# EAGLE library part 1666РЕ014 (library memory)
АЕЯР.431220.981 ТУ 1666РЕ014 - Сегнетоэлектрическое энергонезависимое ОЗУ (FRAM) информационной емкостью 1Мбит. Изготовитель: ОАО "ИНТЕГРАЛ", г. Минск, р. Беларусь. Технические условия: АЕЯР.431220.981 ТУ
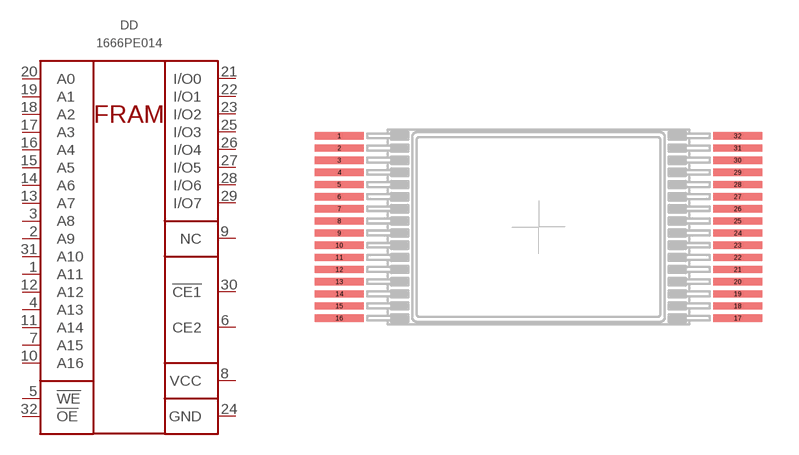
[diagram p3: symbol with the pads of 4184.32-1; footprint 4184.32-1]

Designator prefix DD

## 1666РЕ014  [4184.32-1]
1  A11  in
2  A9  in
3  A8  in
4  A13  in
5  !WE  in
6  CE2  in
7  A15  in
8  VCC  pwr
9  NC  nc
10  A16  in
11  A14  in
12  A12  in
13  A7  in
14  A6  in
15  A5  in
16  A4  in
17  A3  in
18  A2  in
19  A1  in
20  A0  in
21  I/O0  in
22  I/O1  in
23  I/O2  in
24  GND  pwr
25  I/O3  in
26  I/O4  in
27  I/O5  in
28  I/O6  in
29  I/O7  in
30  !CE1  in
31  A10  in
32  !OE  in

## Footprint 4184.32-1 (pad centres in mm)
smd 2 x 0.3: 1 -8.19,3.75; 2 -8.19,3.25; 3 -8.19,2.75; 4 -8.19,2.25; 5 -8.19,1.75; 6 -8.19,1.25; 7 -8.19,0.75; 8 -8.19,0.25; 9 -8.19,-0.25; 10 -8.19,-0.75; 11 -8.19,-1.25; 12 -8.19,-1.75; 13 -8.19,-2.25; 14 -8.19,-2.75; 15 -8.19,-3.25; 16 -8.19,-3.75; 17 8.19,-3.75; 18 8.19,-3.25; 19 8.19,-2.75; 20 8.19,-2.25; 21 8.19,-1.75; 22 8.19,-1.25; 23 8.19,-0.75; 24 8.19,-0.25; 25 8.19,0.25; 26 8.19,0.75; 27 8.19,1.25; 28 8.19,1.75; 29 8.19,2.25; 30 8.19,2.75; 31 8.19,3.25; 32 8.19,3.75